# Altium footprint library PcbLib1.PcbLib: 4 footprints
Each footprint in its own frame and in the unit in brackets; x right, y up, seen from the top. Pads: shape width x height; smd on the part's side, far side on the other; paste and mask are expansions set on the pad; w line width, h text height; cw(c..) or ccw(c..) is an arc to the next point about the centre after c.
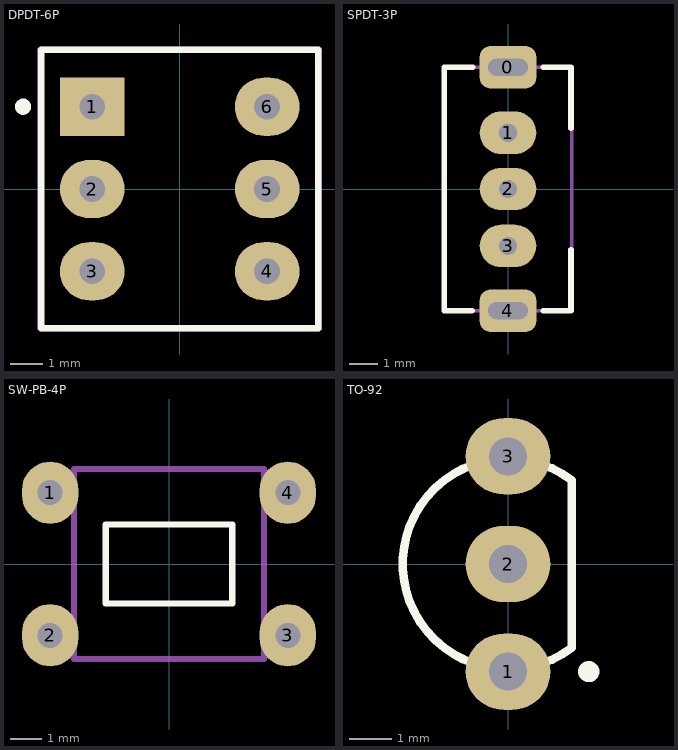
[diagram p0: the footprints below, top view; thin cyan lines are the x and y axes]

## DPDT-6P [mm] "DPDT Push Switch; 6 Leads"
pads (6):
  rect 2x1.8 hole 0.8: 1(-2.7,2.54)
  oval 2x1.8 hole 0.8: 2(-2.7,0) 3(-2.7,-2.54) 4(2.7,-2.54) 5(2.7,0) 6(2.7,2.54)
Top Overlay:
  circle w0.25: c-4.836,2.541 r0.125
  lines w0.2: -4.28,-4.3 4.28,-4.3 4.28,4.3 -4.28,4.3 -4.28,-4.3
Mechanical 13:
  lines w0.2: -4.3,-4.3 4.3,-4.3 4.3,4.3 -4.3,4.3 -4.3,-4.3
3D body: height 14, standoff 8.6, extent -1.5,-1.5 1.5,1.5
3D body: height 8.6, standoff 0, extent -4.3,-4.3 4.3,4.3

## SPDT-3P [mm]
pads (5):
  rrect50% 2x1.5 hole 0.6 slot 1.4 at 0 deg: 0(0,4.313) 4(0,-4.288)
  oval 2x1.5 hole 0.65: 1(0,2) 2(0,0.013) 3(0,-2)
Top Overlay:
  lines w0.2: -1.27,-4.287 -2.25,-4.287 -2.25,4.313 -1.25,4.313 ; 1.25,-4.287 2.225,-4.287 2.225,-2.137 ; 1.25,4.313 2.225,4.313 2.225,2.163
Mechanical 13:
  lines w0.127: -2.25,-4.287 2.25,-4.287 2.25,4.313 -2.25,4.313 -2.25,-4.287
3D body: height 4, standoff 2, extent 2.25,0 5,2.013
3D body: height 5, standoff 0, extent -2.25,-4.287 2.25,4.288

## SW-PB-4P [mm]
pads (4):
  oval 1.8x2 hole 0.8: 1(-3.81,2.286) 2(-3.81,-2.286) 3(3.81,-2.286) 4(3.81,2.286)
Top Overlay:
  lines w0.2: -2.032,-1.27 2.032,-1.27 2.032,1.27 -2.032,1.27 -2.032,-1.27
Mechanical 13:
  lines w0.2: -3.048,-3.048 3.048,-3.048 3.048,3.048 -3.048,3.048 -3.048,-3.048
3D body: height 3.5, standoff 0, extent -3.048,-3.048 3.048,3.048

## TO-92 [mm] "TO, Flat Index; 3 In-Line, Axial Leads; Body Dia. 4.5mm; Leads 0.51 x 0.48 mm (max)"
height 6.86
pads (3):
  oval 2x1.8 hole 0.9: 1(0,-2.54) 2(0,0) 3(0,2.54)
Top Overlay:
  circle w0.25: c1.907,-2.54 r0.125
  lines w0.2: 1.5,-1.98 cw(c0,0) 1.5,1.98 1.5,-1.98
Mechanical 13:
  lines w0.1: 1.5,-1.98 cw(c0,0) 1.5,1.98 1.5,-1.98
Mechanical 15:
  lines w0.1: -0.5,0 0.5,0 ; 0,-0.5 0,0.5
3D body: height 6.86, standoff 2.2, extent -2.497,-2.497 1.501,2.497